# Altium footprint library Zond_ctrl_v1.PcbLib: 38 footprints (part 2 of 3)
Each footprint in its own frame and in the unit in brackets; x right, y up, seen from the top. Pads: shape width x height; smd on the part's side, far side on the other; paste and mask are expansions set on the pad; w line width, h text height; cw(c..) or ccw(c..) is an arc to the next point about the centre after c.
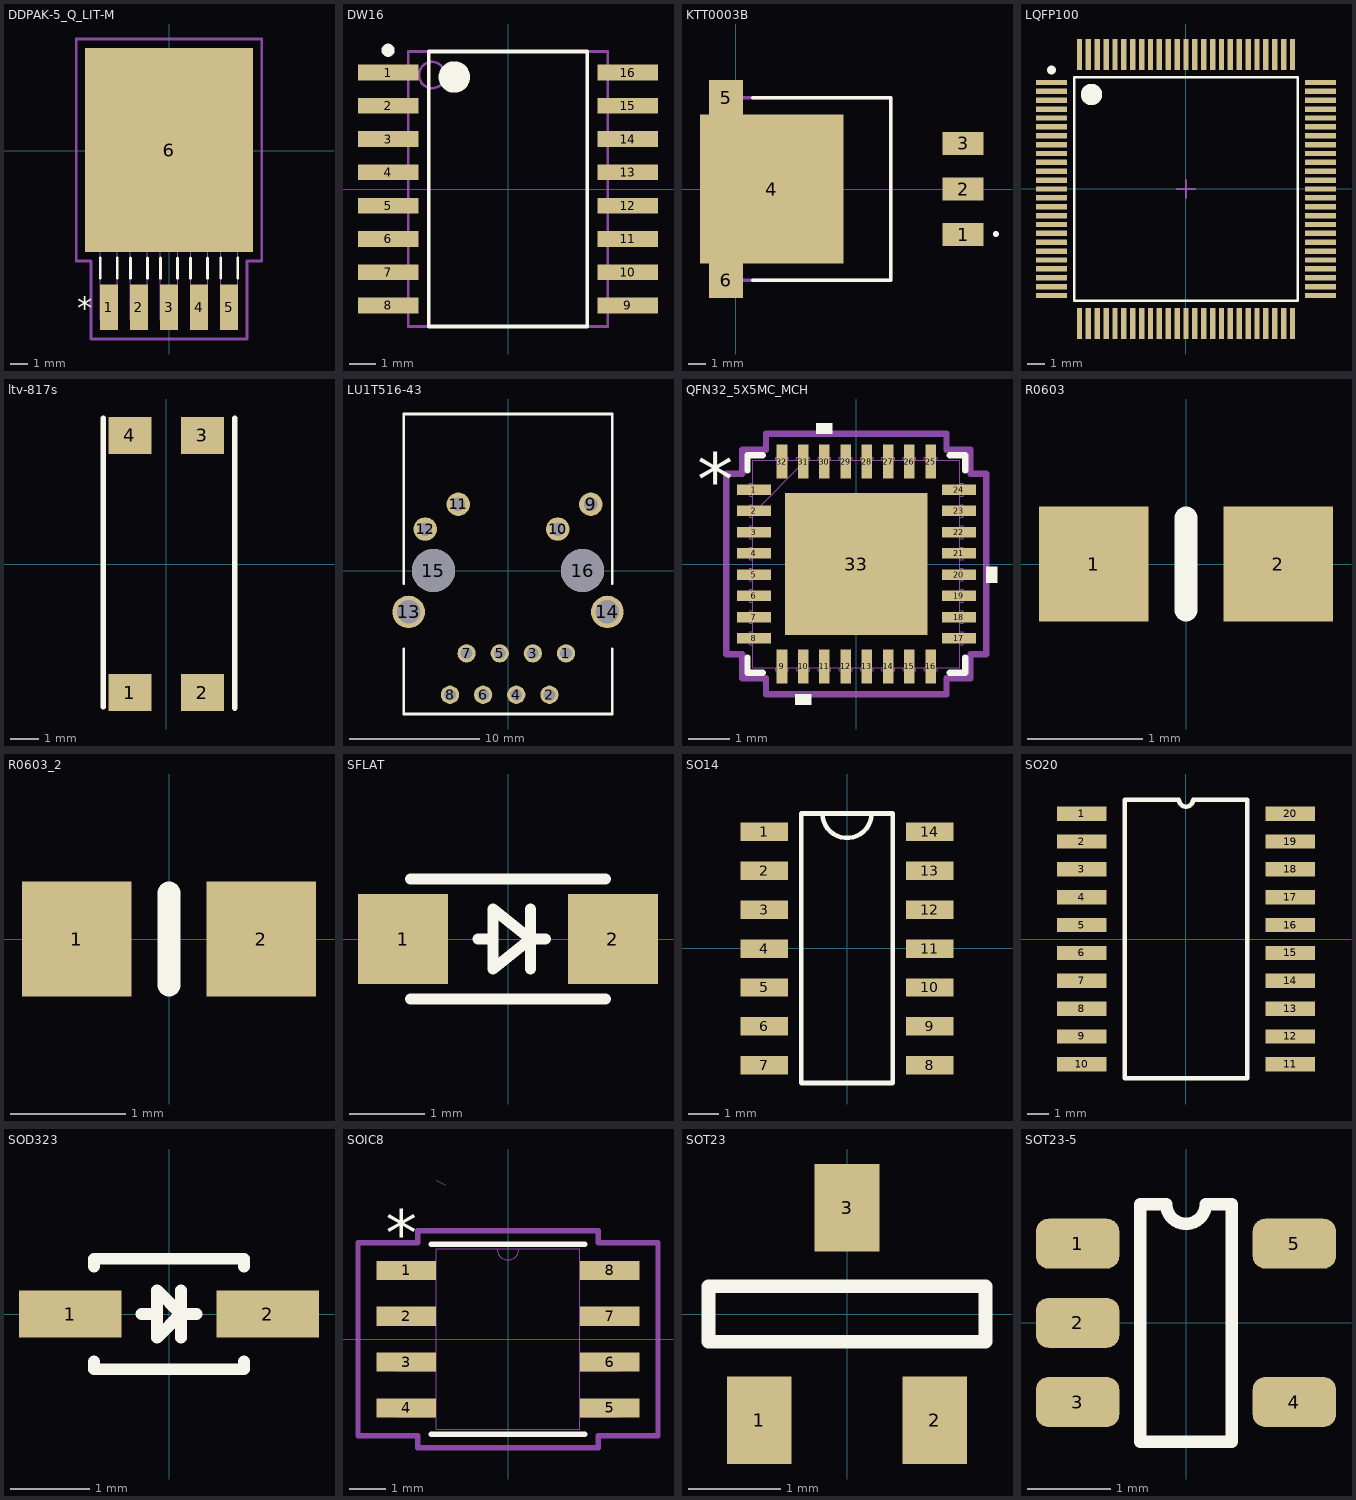
[diagram p1: the footprints below, top view; thin cyan lines are the x and y axes]

## DDPAK-5_Q_LIT-M [mil]
height 80.71
pads (6):
  rect 39.97x101.37 smd paste+0 mask+0: 1(-134,-348.47) 2(-67,-348.47) 3(0,-348.47) 4(67,-348.47) 5(134,-348.47)
  rect 374x455 smd paste+0 mask+0: 6(0,2)
Top Overlay:
  lines w6: -153,-283.78 -153,-238.6 ; -115,-283.78 -115,-238.6 ; -86,-283.78 -86,-238.6 ; -48,-283.78 -48,-238.6 ; -19,-283.78 -19,-238.6 ; 19,-283.78 19,-238.6 ; 48,-283.78 48,-238.6 ; 86,-283.78 86,-238.6 ; 115,-283.78 115,-238.6 ; 153,-283.78 153,-238.6
  text "*" at -205,-373.47 h50
Mechanical 13:
  lines w1: -185,-207.5 -185,207.5 185,207.5 185,-207.5 -185,-207.5 ; -153,-377.5 -115,-377.5 -115,-207.5 -153,-207.5 -153,-377.5 ; -86,-377.5 -48,-377.5 -48,-207.5 -86,-207.5 -86,-377.5 ; -19,-377.5 19,-377.5 19,-207.5 -19,-207.5 -19,-377.5 ; 48,-377.5 86,-377.5 86,-207.5 48,-207.5 48,-377.5 ; 115,-377.5 153,-377.5 153,-207.5 115,-207.5 115,-377.5
  text "*" at -146.5,-222.5 h50
Mechanical 15:
  lines w6: -207,-245.5 -173.98,-245.5 -173.98,-419.15 173.98,-419.15 173.98,-245.5 207,-245.5 207,249.5 -207,249.5 -207,-245.5
3D body "DDPAK-5_Q_LIT-M.step": height 180.12, standoff -2.01, extent -184.99,-314.99 185.01,207.6
3D body: height 10, standoff 0, extent 0,0 10,10

## DW16 [mm] "SOIC, 16-Leads, Body 10,30x7,50mm, Pitch 1,27mm, IPC Medium Density"
height 2.65
pads (16):
  rect 2.3x0.6 smd: 1(-4.575,4.445) 2(-4.575,3.175) 3(-4.575,1.905) 4(-4.575,0.635) 5(-4.575,-0.635) 6(-4.575,-1.905) 7(-4.575,-3.175) 8(-4.575,-4.445) 9(4.575,-4.445) 10(4.575,-3.175) 11(4.575,-1.905) 12(4.575,-0.635) 13(4.575,0.635) 14(4.575,1.905) 15(4.575,3.175) 16(4.575,4.445)
Top Overlay:
  circle w0.25: c-4.575,5.295 r0.125
  circle w0.6: c-2.05,4.275 r0.3
  lines w0.15: -3.025,-5.25 -3.025,5.25 3.025,5.25 3.025,-5.25 -3.025,-5.25
Mechanical 13:
  circle w0.1: c-2.9,4.35 r0.5
  lines w0.1: -3.8,-5.25 -3.8,5.25 3.8,5.25 3.8,-5.25 -3.8,-5.25
3D body "RW_16.stp": height 2.64, standoff 0, extent -5.321,-5.25 5.321,5.24

## KTT0003B [mm]
height 2.05
pads (6):
  rect 2.3x1.3 smd: 1(12.67,-2.54) 2(12.67,0) 3(12.67,2.54)
  rect 8x8.33 smd: 4(2,0)
  rect 1.91x2 smd: 5(-0.545,5.08) 6(-0.545,-5.08)
Top Overlay:
  circle w0.2: c14.497,-2.51 r0.065
  lines w0.2: 0.94,-5.08 8.64,-5.08 8.64,5.08 0.94,5.08
Mechanical 13:
  lines w0.2: 0,-5.08 0,5.08 8.64,5.08 8.64,-5.08 0,-5.08
3D body "LM2940CSX-12_NOPB.stp": height 4.54, standoff 0, extent -1.517,-5.08 13.722,5.08

## LQFP100 [mm]
height 2.05
pads (100):
  rect 1.75x0.3 smd: 1(-7.575,6) 2(-7.575,5.5) 3(-7.575,5) 4(-7.575,4.5) 5(-7.575,4) 6(-7.575,3.5) 7(-7.575,3) 8(-7.575,2.5) 9(-7.575,2) 10(-7.575,1.5) 11(-7.575,1) 12(-7.575,0.5) 13(-7.575,0) 14(-7.575,-0.5) 15(-7.575,-1) 16(-7.575,-1.5) 17(-7.575,-2) 18(-7.575,-2.5) 19(-7.575,-3) 20(-7.575,-3.5) 21(-7.575,-4) 22(-7.575,-4.5) 23(-7.575,-5) 24(-7.575,-5.5) 25(-7.575,-6) 51(7.575,-6) 52(7.575,-5.5) 53(7.575,-5) 54(7.575,-4.5) 55(7.575,-4) 56(7.575,-3.5) 57(7.575,-3) 58(7.575,-2.5) 59(7.575,-2) 60(7.575,-1.5) 61(7.575,-1) 62(7.575,-0.5) 63(7.575,0) 64(7.575,0.5) 65(7.575,1) 66(7.575,1.5) 67(7.575,2) 68(7.575,2.5) 69(7.575,3) 70(7.575,3.5) 71(7.575,4) 72(7.575,4.5) 73(7.575,5) 74(7.575,5.5) 75(7.575,6)
  rect 0.3x1.75 smd: 26(-6,-7.575) 27(-5.5,-7.575) 28(-5,-7.575) 29(-4.5,-7.575) 30(-4,-7.575) 31(-3.5,-7.575) 32(-3,-7.575) 33(-2.5,-7.575) 34(-2,-7.575) 35(-1.5,-7.575) 36(-1,-7.575) 37(-0.5,-7.575) 38(0,-7.575) 39(0.5,-7.575) 40(1,-7.575) 41(1.5,-7.575) 42(2,-7.575) 43(2.5,-7.575) 44(3,-7.575) 45(3.5,-7.575) 46(4,-7.575) 47(4.5,-7.575) 48(5,-7.575) 49(5.5,-7.575) 50(6,-7.575) 76(6,7.575) 77(5.5,7.575) 78(5,7.575) 79(4.5,7.575) 80(4,7.575) 81(3.5,7.575) 82(3,7.575) 83(2.5,7.575) 84(2,7.575) 85(1.5,7.575) 86(1,7.575) 87(0.5,7.575) 88(0,7.575) 89(-0.5,7.575) 90(-1,7.575) 91(-1.5,7.575) 92(-2,7.575) 93(-2.5,7.575) 94(-3,7.575) 95(-3.5,7.575) 96(-4,7.575) 97(-4.5,7.575) 98(-5,7.575) 99(-5.5,7.575) 100(-6,7.575)
Top Overlay:
  circle w0.25: c-7.575,6.7 r0.125
  circle w0.6: c-5.325,5.325 r0.3
  lines w0.15: -6.3,-6.3 6.3,-6.3 6.3,6.3 -6.3,6.3 -6.3,-6.3
Mechanical 15:
  lines w0.1: -0.5,0 0.5,0 ; 0,-0.5 0,0.5
3D body: height 1.6, standoff 0.05, extent -7,-7 7,7

## ltv-817s [mm]
height 4
pads (4):
  rect 1.5x1.3 smd: 1(-1.27,-4.5) 2(1.27,-4.5) 3(1.27,4.5) 4(-1.27,4.5)
Top Overlay:
  lines w0.2: -2.2,-5 -2.2,5.1 ; 2.4,-5.038 2.4,5.1
3D body "SW3dPS-4-SMD.STEP": height 3.81, standoff 0.05, extent -2.159,-5.004 2.439,5.156

## LU1T516-43 [mm]
pads (16):
  round 1.4 hole 0.9: 1(4.445,-6.35) 2(3.175,-9.525) 3(1.905,-6.35) 4(0.635,-9.525) 5(-0.635,-6.35) 6(-1.905,-9.525) 7(-3.175,-6.35) 8(-4.445,-9.525)
  round 1.8 hole 1.02: 9(6.35,5.08) 10(3.81,3.175) 11(-3.81,5.08) 12(-6.35,3.175)
  round 2.5 hole 1.8: 13(-7.62,-3.175) 14(7.62,-3.175)
  round 3.3 hole 3.3: 15(-5.715,0) 16(5.715,0)
Top Overlay:
  lines w0.2: -8,-6 -8,-11 8,-11 8,-6 ; -8,-1 -8,12 8,12 8,-1
3D body "LU1T516-43.STEP": height 13.15, standoff -4.25, extent -8,-10.65 8,10.65

## QFN32_5X5MC_MCH [mil]
height 80.71
pads (33):
  rect 32x10 smd paste+0 mask+0: 1(-96.5,70) 2(-96.5,50) 3(-96.5,30) 4(-96.5,10) 5(-96.5,-10) 6(-96.5,-30) 7(-96.5,-50) 8(-96.5,-70) 17(96.5,-70) 18(96.5,-50) 19(96.5,-30) 20(96.5,-10) 21(96.5,10) 22(96.5,30) 23(96.5,50) 24(96.5,70)
  rect 10x32 smd paste+0 mask+0: 9(-70,-96.5) 10(-50,-96.5) 11(-30,-96.5) 12(-10,-96.5) 13(10,-96.5) 14(30,-96.5) 15(50,-96.5) 16(70,-96.5) 25(70,96.5) 26(50,96.5) 27(30,96.5) 28(10,96.5) 29(-10,96.5) 30(-30,96.5) 31(-50,96.5) 32(-70,96.5)
  rect 134x134 smd paste-66.5 mask-66.5: 33(0,0)
Top Overlay:
  region: -22.5,122.5 -37.5,122.5 -37.5,132.5 -22.5,132.5
  region: 122.5,-2.5 132.5,-2.5 132.5,-17.5 122.5,-17.5
  region: -42.5,-122.5 -57.5,-122.5 -57.5,-132.5 -42.5,-132.5
  lines w6: -102.5,-88.1 -102.5,-102.5 -88.1,-102.5 ; -102.5,88.1 -102.5,102.5 -88.1,102.5 ; 88.1,-102.5 102.5,-102.5 102.5,-88.1 ; 88.1,102.5 102.5,102.5 102.5,88.1
  text "*" at -150,55 h50
Top Paste:
  drawing of 25 lines, arcs and shapes, not listed
Top Solder:
  region: 54.37,-69.5 54.37,69.5 69.5,69.5 69.5,-69.5
  region: 38.63,-69.5 38.63,69.5 23.37,69.5 23.37,-69.5
  region: 7.63,-69.5 7.63,69.5 -7.63,69.5 -7.63,-69.5
  region: -23.37,-69.5 -23.37,69.5 -38.63,69.5 -38.63,-69.5
  region: -69.5,-69.5 -69.5,69.5 -54.37,69.5 -54.37,-69.5
  region: -69.5,-69.5 -69.5,-54.37 69.5,-54.37 69.5,-69.5
  region: -69.5,-38.63 -69.5,-23.37 69.5,-23.37 69.5,-38.63
  region: -69.5,-7.63 -69.5,7.63 69.5,7.63 69.5,-7.63
  region: -69.5,23.37 -69.5,38.63 69.5,38.63 69.5,23.37
  region: -69.5,54.37 -69.5,69.5 69.5,69.5 69.5,54.37
Mechanical 13:
  lines w1: -97.5,47.5 -47.5,97.5 ; -100.5,-76 -97.5,-76 -97.5,-64 -100.5,-64 -100.5,-76 ; -100.5,-56 -97.5,-56 -97.5,-44 -100.5,-44 -100.5,-56 ; -100.5,-36 -97.5,-36 -97.5,-24 -100.5,-24 -100.5,-36 ; -100.5,-16 -97.5,-16 -97.5,-4 -100.5,-4 -100.5,-16 ; -100.5,4 -97.5,4 -97.5,16 -100.5,16 -100.5,4 ; -100.5,24 -97.5,24 -97.5,36 -100.5,36 -100.5,24 ; -100.5,44 -97.5,44 -97.5,56 -100.5,56 -100.5,44 ; -100.5,64 -97.5,64 -97.5,76 -100.5,76 -100.5,64 ; -97.5,-97.5 -97.5,97.5 97.5,97.5 97.5,-97.5 -97.5,-97.5 ; -76,-100.5 -64,-100.5 -64,-97.5 -76,-97.5 -76,-100.5 ; -76,97.5 -76,100.5 -64,100.5 -64,97.5 -76,97.5 ; -56,-100.5 -44,-100.5 -44,-97.5 -56,-97.5 -56,-100.5 ; -56,97.5 -56,100.5 -44,100.5 -44,97.5 -56,97.5 ; -36,-100.5 -24,-100.5 -24,-97.5 -36,-97.5 -36,-100.5 ; -36,97.5 -36,100.5 -24,100.5 -24,97.5 -36,97.5 ; -16,-100.5 -4,-100.5 -4,-97.5 -16,-97.5 -16,-100.5 ; -16,97.5 -16,100.5 -4,100.5 -4,97.5 -16,97.5 ; 4,-100.5 16,-100.5 16,-97.5 4,-97.5 4,-100.5 ; 4,97.5 4,100.5 16,100.5 16,97.5 4,97.5 ; 24,-100.5 36,-100.5 36,-97.5 24,-97.5 24,-100.5 ; 24,97.5 24,100.5 36,100.5 36,97.5 24,97.5 ; 44,-100.5 56,-100.5 56,-97.5 44,-97.5 44,-100.5 ; 44,97.5 44,100.5 56,100.5 56,97.5 44,97.5 ; 64,-100.5 76,-100.5 76,-97.5 64,-97.5 64,-100.5 ; 64,97.5 64,100.5 76,100.5 76,97.5 64,97.5 ; 97.5,-76 100.5,-76 100.5,-64 97.5,-64 97.5,-76 ; 97.5,-56 100.5,-56 100.5,-44 97.5,-44 97.5,-56 ; 97.5,-36 100.5,-36 100.5,-24 97.5,-24 97.5,-36 ; 97.5,-16 100.5,-16 100.5,-4 97.5,-4 97.5,-16 ; 97.5,4 100.5,4 100.5,16 97.5,16 97.5,4 ; 97.5,24 100.5,24 100.5,36 97.5,36 97.5,24 ; 97.5,44 100.5,44 100.5,56 97.5,56 97.5,44 ; 97.5,64 100.5,64 100.5,76 97.5,76 97.5,64
  text "*" at -93,55 h50
Mechanical 15:
  lines w6: -122.5,-85 -122.5,85 -107.5,85 -107.5,107.5 -85,107.5 -85,122.5 85,122.5 85,107.5 107.5,107.5 107.5,85 122.5,85 122.5,-85 107.5,-85 107.5,-107.5 85,-107.5 85,-122.5 -85,-122.5 -85,-107.5 -107.5,-107.5 -107.5,-85 -122.5,-85
Mechanical 16:
  circle w10: c46.5,46.5 r15
  circle w10: c46.5,15.5 r15
  circle w10: c46.5,-15.5 r15
  circle w10: c46.5,-46.5 r15
  circle w10: c15.5,46.5 r15
  circle w10: c15.5,15.5 r15
  circle w10: c15.5,-15.5 r15
  circle w10: c15.5,-46.5 r15
  circle w10: c-15.5,46.5 r15
  circle w10: c-15.5,15.5 r15
  circle w10: c-15.5,-15.5 r15
  circle w10: c-15.5,-46.5 r15
  circle w10: c-46.5,46.5 r15
  circle w10: c-46.5,15.5 r15
  circle w10: c-46.5,-15.5 r15
  circle w10: c-46.5,-46.5 r15
3D body: height 10, standoff 0, extent 0,0 10,10
3D body "QFN32_5X5MC_MCH.step": height 55.12, standoff 0, extent -100.51,-100.51 100.51,100.52

## R0603 [mm]
height 2.05
pads (2):
  rect 0.95x1 smd: 1(-0.8,0) 2(0.8,0)
Top Overlay:
  lines w0.2: 0,-0.4 0,0.4
3D body "R0603.STEP": height 0.45, standoff 0, extent -0.8,-0.4 0.8,0.4

## R0603_2 [mm]
pads (2):
  rect 0.95x1 smd: 1(-0.8,0) 2(0.8,0)
Top Overlay:
  lines w0.2: 0,-0.4 0,0.4
3D body "R0603.STEP": height 0.45, standoff 0, extent -0.8,-0.4 0.8,0.4

## SFLAT [mm]
height 2.05
pads (2):
  rect 1.2x1.2 smd: 1(-1.4,0) 2(1.4,0)
Top Overlay:
  lines w0.15: -1.3,-0.8 1.3,-0.8 ; -1.3,0.8 1.3,0.8 ; -0.4,0 -0.2,0 ; 0.3,-0.4 0.3,0.4 ; 0.5,0 0.3,0 ; 0.3,0 -0.2,-0.4 -0.2,0.4 0.3,0
3D body "SFLAT.STEP": height 0.98, standoff 0, extent -1.75,-0.8 1.75,0.8

## SO14 [mm]
height 2.05
pads (14):
  rect 1.55x0.6 smd: 1(-2.7,3.8) 2(-2.7,2.53) 3(-2.7,1.26) 4(-2.7,-0.01) 5(-2.7,-1.28) 6(-2.7,-2.55) 7(-2.7,-3.82) 8(2.7,-3.82) 9(2.7,-2.55) 10(2.7,-1.28) 11(2.7,-0.01) 12(2.7,1.26) 13(2.7,2.53) 14(2.7,3.8)
Top Overlay:
  lines w0.15: -0.8,4.4 ccw(c0,4.4) 0.8,4.4 ; -1.5,-4.4 1.5,-4.4 1.5,4.4 -1.5,4.4 -1.5,-4.4
3D body "SO14.STEP": height 1.75, standoff 0, extent -3.073,-4.6 2.927,4.6

## SO20 [mm]
height 2.05
pads (20):
  rect 2.25x0.65 smd: 1(-4.75,5.715) 2(-4.75,4.445) 3(-4.75,3.175) 4(-4.75,1.905) 5(-4.75,0.635) 6(-4.75,-0.635) 7(-4.75,-1.905) 8(-4.75,-3.175) 9(-4.75,-4.445) 10(-4.75,-5.715) 11(4.75,-5.715) 12(4.75,-4.445) 13(4.75,-3.175) 14(4.75,-1.905) 15(4.75,-0.635) 16(4.75,0.635) 17(4.75,1.905) 18(4.75,3.175) 19(4.75,4.445) 20(4.75,5.715)
Top Overlay:
  lines w0.2: -2.79,-6.35 -2.79,6.35 -0.318,6.35 ccw(c0,6.35) 0.318,6.35 2.79,6.35 2.79,-6.35 -2.79,-6.35
3D body "SW3dPS-SOIC20-300.step": height 2.65, standoff 0, extent -5.125,-6.41 5.175,6.39

## SOD323 [mm]
height 2.05
pads (2):
  rect 1.3x0.6 smd: 1(-1.25,0) 2(1.25,0)
Top Overlay:
  lines w0.15: -0.95,-0.6 -0.95,-0.7 0.95,-0.7 0.95,-0.6 ; -0.95,0.6 -0.95,0.7 0.95,0.7 0.95,0.6 ; -0.35,0 -0.16,0 ; 0.15,-0.3 0.15,0.3 ; 0.35,0 0.15,0 ; 0.15,0 -0.15,0.3 -0.15,-0.3 0.15,0
3D body "SW3dPS-SOD-323F.STEP": height 0.79, standoff -0.08, extent -1.35,-0.675 1.35,0.675

## SOIC8 [mm] "MAX3057ASA+"
height 2.05
pads (8):
  rect 1.655x0.533 smd paste+0 mask+0: 1(-2.821,1.905) 2(-2.821,0.635) 3(-2.821,-0.635) 4(-2.821,-1.905) 5(2.821,-1.905) 6(2.821,-0.635) 7(2.821,0.635) 8(2.821,1.905)
Top Overlay:
  lines w0.152: -2.121,-2.629 2.121,-2.629 ; -2.121,2.629 2.121,2.629
  text "*" at -3.393,2.311 h1.27
Mechanical 7:
  lines w0.025: -1.994,4.407 -1.74,4.28
Mechanical 13:
  lines w0: -0.305,2.502 ccw(c0,2.502) 0.305,2.502
  lines w0.025: -3.099,-2.146 -1.994,-2.146 -1.994,-1.664 -3.099,-1.664 -3.099,-2.146 ; -3.099,-0.876 -1.994,-0.876 -1.994,-0.394 -3.099,-0.394 -3.099,-0.876 ; -3.099,0.394 -1.994,0.394 -1.994,0.876 -3.099,0.876 -3.099,0.394 ; -3.099,1.664 -1.994,1.664 -1.994,2.146 -3.099,2.146 -3.099,1.664 ; -1.994,-2.502 -1.994,2.502 1.994,2.502 1.994,-2.502 -1.994,-2.502 ; 1.994,-2.146 3.099,-2.146 3.099,-1.664 1.994,-1.664 1.994,-2.146 ; 1.994,-0.876 3.099,-0.876 3.099,-0.394 1.994,-0.394 1.994,-0.876 ; 1.994,0.394 3.099,0.394 3.099,0.876 1.994,0.876 1.994,0.394 ; 1.994,1.664 3.099,1.664 3.099,2.146 1.994,2.146 1.994,1.664
  text "*" at -1.93,1.156 h1.27
Mechanical 15:
  lines w0.152: -4.157,-2.679 -2.502,-2.679 -2.502,-3.01 2.502,-3.01 2.502,-2.679 4.157,-2.679 4.157,2.679 2.502,2.679 2.502,3.01 -2.502,3.01 -2.502,2.679 -4.157,2.679 -4.157,-2.679
3D body "21-0041B_8_MXM-M.step": height 1.76, standoff 0, extent -3.099,-2.502 3.099,2.502
3D body: height 0.25, standoff 0, extent 0,0 0.254,0.254

## SOT23 [mm]
height 2.05
pads (3):
  rect 0.7x0.95 smd: 1(-0.95,-1.15) 2(0.95,-1.15) 3(0,1.15)
Top Overlay:
  lines w0.15: -1.5,-0.3 1.5,-0.3 1.5,0.3 -1.5,0.3 -1.5,-0.3
3D body "SOT23.STEP": height 1.1, standoff 0, extent -1.499,-1.27 1.501,1.23

## SOT23-5 [mm]
height 2.05
pads (5):
  rrect50% 1x0.6 smd: 1(-1.3,0.95) 2(-1.3,0) 3(-1.3,-0.95) 4(1.3,-0.95) 5(1.3,0.95)
Top Overlay:
  lines w0.15: -0.55,-1.425 -0.55,1.425 -0.238,1.425 ccw(c0,1.425) 0.238,1.425 0.55,1.425 0.55,-1.425 -0.55,-1.425
3D body "SOT23-5.STEP": height 1.45, standoff 0, extent -1.5,-1.5 1.5,1.5